# Altium footprint library led.PcbLib: 61 footprints (part 2 of 4)
Each footprint in its own frame and in the unit in brackets; x right, y up, seen from the top. Pads: shape width x height; smd on the part's side, far side on the other; paste and mask are expansions set on the pad; w line width, h text height; cw(c..) or ccw(c..) is an arc to the next point about the centre after c.
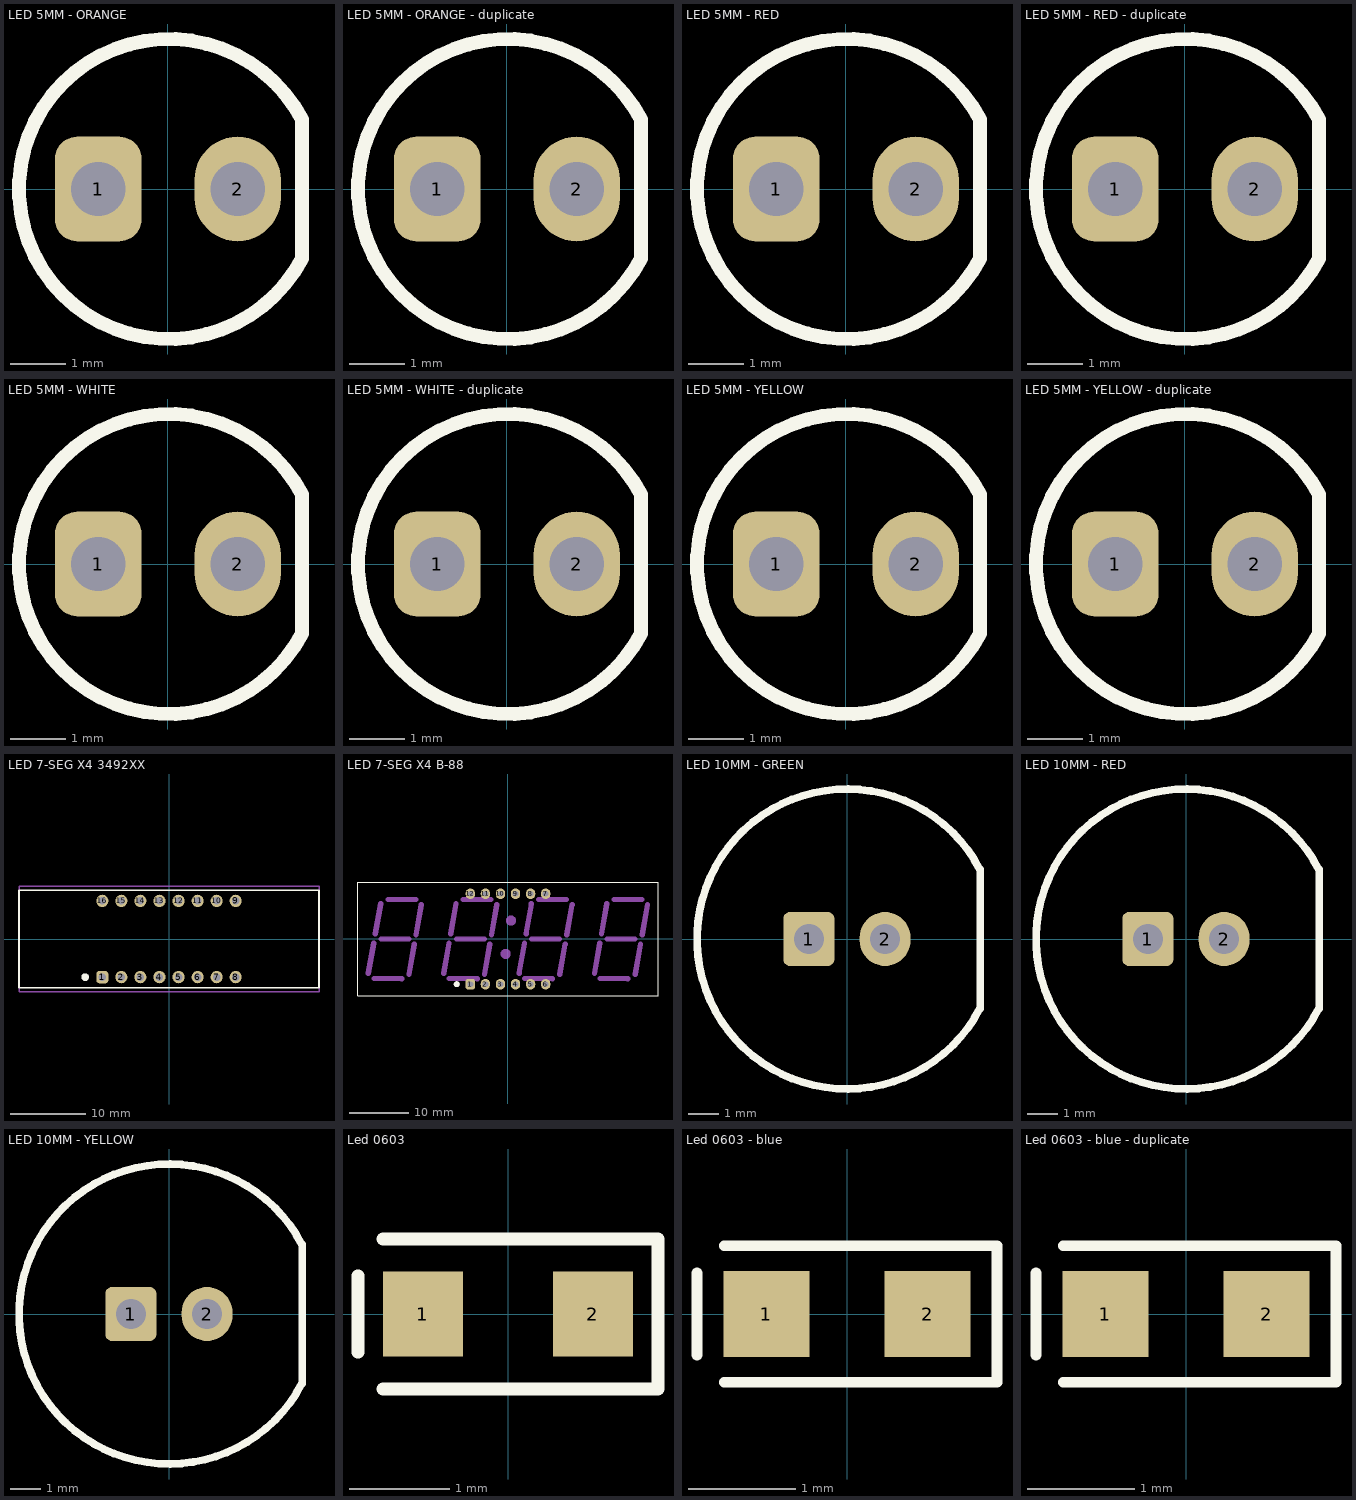
[diagram p1: the footprints below, top view; thin cyan lines are the x and y axes]

## LED 5MM - ORANGE [mil]
pads (2):
  rrect50% 62x75 hole 39: 1(-50,0)
  oval 62x75 hole 39: 2(50,0)
Top Overlay:
  lines w10: 96.08,-49.99 cw(c0.76,0.01) 96.08,50.01 96.08,-49.99
3D body "User Library-LED 5mm Orange.STEP": height 339.75, standoff -242.93, extent -117.31,-118.49 96.08,118.5

## LED 5MM - ORANGE - duplicate [mil]
pads (2):
  rrect50% 62x75 hole 39: 1(-50,0)
  oval 62x75 hole 39: 2(50,0)
Top Overlay:
  lines w10: 96.08,-49.99 cw(c0.76,0.01) 96.08,50.01 96.08,-49.99
3D body "User Library-LED 5mm Orange.STEP": height 339.75, standoff -242.93, extent -117.31,-118.49 96.08,118.5

## LED 5MM - RED [mil]
pads (2):
  rrect50% 62x75 hole 39: 1(-50,0)
  oval 62x75 hole 39: 2(50,0)
Top Overlay:
  lines w10: 96.08,-49.99 cw(c0.76,0.01) 96.08,50.01 96.08,-49.99
3D body "User Library-LED 5mm Red.STEP": height 339.75, standoff -242.93, extent -117.31,-118.49 96.08,118.5

## LED 5MM - RED - duplicate [mil]
pads (2):
  rrect50% 62x75 hole 39: 1(-50,0)
  oval 62x75 hole 39: 2(50,0)
Top Overlay:
  lines w10: 96.08,-49.99 cw(c0.76,0.01) 96.08,50.01 96.08,-49.99
3D body "User Library-LED 5mm Red.STEP": height 339.75, standoff -242.93, extent -117.31,-118.49 96.08,118.5

## LED 5MM - WHITE [mil]
pads (2):
  rrect50% 62x75 hole 39: 1(-50,0)
  oval 62x75 hole 39: 2(50,0)
Top Overlay:
  lines w10: 96.08,-49.99 cw(c0.76,0.01) 96.08,50.01 96.08,-49.99
3D body "User Library-LED 5mm White.step": height 335.65, standoff -117.11, extent -118.12,-118.02 98.42,118.04

## LED 5MM - WHITE - duplicate [mil]
pads (2):
  rrect50% 62x75 hole 39: 1(-50,0)
  oval 62x75 hole 39: 2(50,0)
Top Overlay:
  lines w10: 96.08,-49.99 cw(c0.76,0.01) 96.08,50.01 96.08,-49.99
3D body "User Library-LED 5mm White.step": height 335.65, standoff -117.11, extent -118.12,-118.02 98.42,118.04

## LED 5MM - YELLOW [mil]
pads (2):
  rrect50% 62x75 hole 39: 1(-50,0)
  oval 62x75 hole 39: 2(50,0)
Top Overlay:
  lines w10: 96.08,-49.99 cw(c0.76,0.01) 96.08,50.01 96.08,-49.99
3D body "User Library-LED 5mm Yellow.STEP": height 339.75, standoff -242.93, extent -117.31,-118.49 96.08,118.5

## LED 5MM - YELLOW - duplicate [mil]
pads (2):
  rrect50% 62x75 hole 39: 1(-50,0)
  oval 62x75 hole 39: 2(50,0)
Top Overlay:
  lines w10: 96.08,-49.99 cw(c0.76,0.01) 96.08,50.01 96.08,-49.99
3D body "User Library-LED 5mm Yellow.STEP": height 339.75, standoff -242.93, extent -117.31,-118.49 96.08,118.5

## LED 7-SEG X4 3492XX [mm] "LED, 7-Segment Display, 14.22 mm, Four Digit, 88:88; 12 Leads; Row Space 15.24 mm; Pitch 2.54 mm"
height 8.26
pads (16):
  rrect50% 1.6x1.65 hole 1: 1(-8.89,-5.08)
  oval 1.6x1.65 hole 1: 2(-6.35,-5.08) 3(-3.81,-5.08) 4(-1.27,-5.08) 5(1.27,-5.08) 6(3.81,-5.08) 7(6.35,-5.08) 8(8.89,-5.08) 9(8.89,5.08) 10(6.35,5.08) 11(3.81,5.08) 12(1.27,5.08) 13(-1.27,5.08) 14(-3.81,5.08) 15(-6.35,5.08) 16(-8.89,5.08)
Top Overlay:
  circle w0.508: c-11.176,-5.08 r0.254
  lines w0.203: -20,-6.5 20,-6.5 20,6.5 -20,6.5 -20,-6.5
Mechanical 1:
  lines w0.2: -20,-7 -20,7 20,7 20,-7 -20,-7
3D body "LED_Display_KYX-3492BS.step": height 7.05, standoff -2, extent -20.1,-6.4 20.1,6.4

## LED 7-SEG X4 B-88 [mil] "LED, 7-Segment Display, 14.22 mm, Four Digit, 88:88; 12 Leads; Row Space 15.24 mm; Pitch 2.54 mm"
height 325.2
pads (12):
  rrect50% 62x70 hole 39: 1(-250,-300)
  oval 62x70 hole 39: 2(-150,-300) 3(-50,-300) 4(50,-300) 5(150,-300) 6(250,-300) 7(250,300) 8(150,300) 9(50,300) 10(-50,300) 11(-150,300) 12(-250,300)
Top Overlay:
  circle w20: c-340,-300 r10
  lines w8: -995,-375 -995,375 995,375 995,-375 -995,-375
Mechanical 1:
  circle w55.12: c19.88,122.05 r5.91
  circle w55.12: c-15.55,-98.43 r5.91
  lines w35.43: -926.38,-226.77 -890.94,-27.17 ; -888.58,-262.2 -704.72,-262.6 ; -879.92,35.43 -844.88,234.65 ; -842.13,0 -658.66,0 ; -796.46,262.2 -612.6,262.2 ; -656.3,-234.25 -621.26,-35.43 ; -609.84,27.95 -574.8,226.77 ; -426.38,-226.77 -390.94,-27.17 ; -388.58,-262.2 -204.72,-262.6 ; -379.92,35.43 -344.88,234.65 ; -342.13,0 -158.66,0 ; -296.46,262.2 -112.6,262.2 ; -156.3,-234.25 -121.26,-35.43 ; -109.84,27.95 -74.8,226.77 ; 73.62,-226.77 109.06,-27.17 ; 111.42,-262.2 295.28,-262.6 ; 120.08,35.43 155.12,234.65 ; 157.87,0 341.34,0 ; 203.54,262.2 387.4,262.2 ; 343.7,-234.25 378.74,-35.43 ; 390.16,27.95 425.2,226.77 ; 573.62,-226.77 609.06,-27.17 ; 611.42,-262.2 795.28,-262.6 ; 620.08,35.43 655.12,234.65 ; 657.87,0 841.34,0 ; 703.54,262.2 887.4,262.2 ; 843.7,-234.25 878.74,-35.43 ; 890.16,27.95 925.2,226.77
3D body "User Library-7x4seg.STEP": height 374.65, standoff -117.48, extent -990.15,-374.01 990.16,374.02

## LED 10MM - GREEN [mm]
pads (2):
  rrect25% 1.7x1.8 hole 1: 1(-1.27,0)
  oval 1.7x1.8 hole 1: 2(1.27,0)
Top Overlay:
  lines w0.254: 4.428,-2.323 cw(c0,0) 4.428,2.323 ; 4.44,-2.33 4.44,2.33
3D body "LED 10mm Green.step": height 14.15, standoff -5.5, extent -5.5,-5.5 5.5,5.5

## LED 10MM - RED [mm]
pads (2):
  rrect25% 1.7x1.8 hole 1: 1(-1.27,0)
  oval 1.7x1.8 hole 1: 2(1.27,0)
Top Overlay:
  lines w0.254: 4.428,-2.323 cw(c0,0) 4.428,2.323 ; 4.44,-2.33 4.44,2.33
3D body "LED 10mm Red.step": height 14.15, standoff -5.5, extent -5.5,-5.5 5.5,5.5

## LED 10MM - YELLOW [mm]
pads (2):
  rrect25% 1.7x1.8 hole 1: 1(-1.27,0)
  oval 1.7x1.8 hole 1: 2(1.27,0)
Top Overlay:
  lines w0.254: 4.428,-2.323 cw(c0,0) 4.428,2.323 ; 4.44,-2.33 4.44,2.33
3D body "LED 10mm Yellow.step": height 14.15, standoff -5.5, extent -5.5,-5.5 5.5,5.5

## Led 0603 [mm] "Led SMD 0603"
height 0.8
pads (2):
  rect 0.8x0.85 smd: 1(-0.85,0) 2(0.85,0)
Top Overlay:
  lines w0.127: -1.5,-0.381 -1.5,0.381 ; -1.25,-0.75 1.5,-0.75 1.5,0.75 -1.25,0.75
3D body "User Library-led_0603.step": height 0.6, standoff 0, extent -0.81,-0.4 0.81,0.4

## Led 0603 - blue [mm] "Led SMD 0603"
height 0.8
pads (2):
  rect 0.8x0.8 smd: 1(-0.75,0) 2(0.75,0)
Top Overlay:
  lines w0.1: -1.397,-0.381 -1.397,0.381 ; -1.143,-0.635 1.397,-0.635 1.397,0.635 -1.143,0.635
3D body "User Library-led_0603.step": height 0.6, standoff 0, extent -0.81,-0.4 0.81,0.4

## Led 0603 - blue - duplicate [mm] "Led SMD 0603"
height 0.8
pads (2):
  rect 0.8x0.8 smd: 1(-0.75,0) 2(0.75,0)
Top Overlay:
  lines w0.1: -1.397,-0.381 -1.397,0.381 ; -1.143,-0.635 1.397,-0.635 1.397,0.635 -1.143,0.635
3D body "User Library-led_0603.step": height 0.6, standoff 0, extent -0.81,-0.4 0.81,0.4